# Altium footprint library transistor-fet.PCBLIB: 45 footprints (part 3 of 3)
Each footprint in its own frame and in the unit in brackets; x right, y up, seen from the top. Pads: shape width x height; smd on the part's side, far side on the other; paste and mask are expansions set on the pad; w line width, h text height; cw(c..) or ccw(c..) is an arc to the next point about the centre after c.
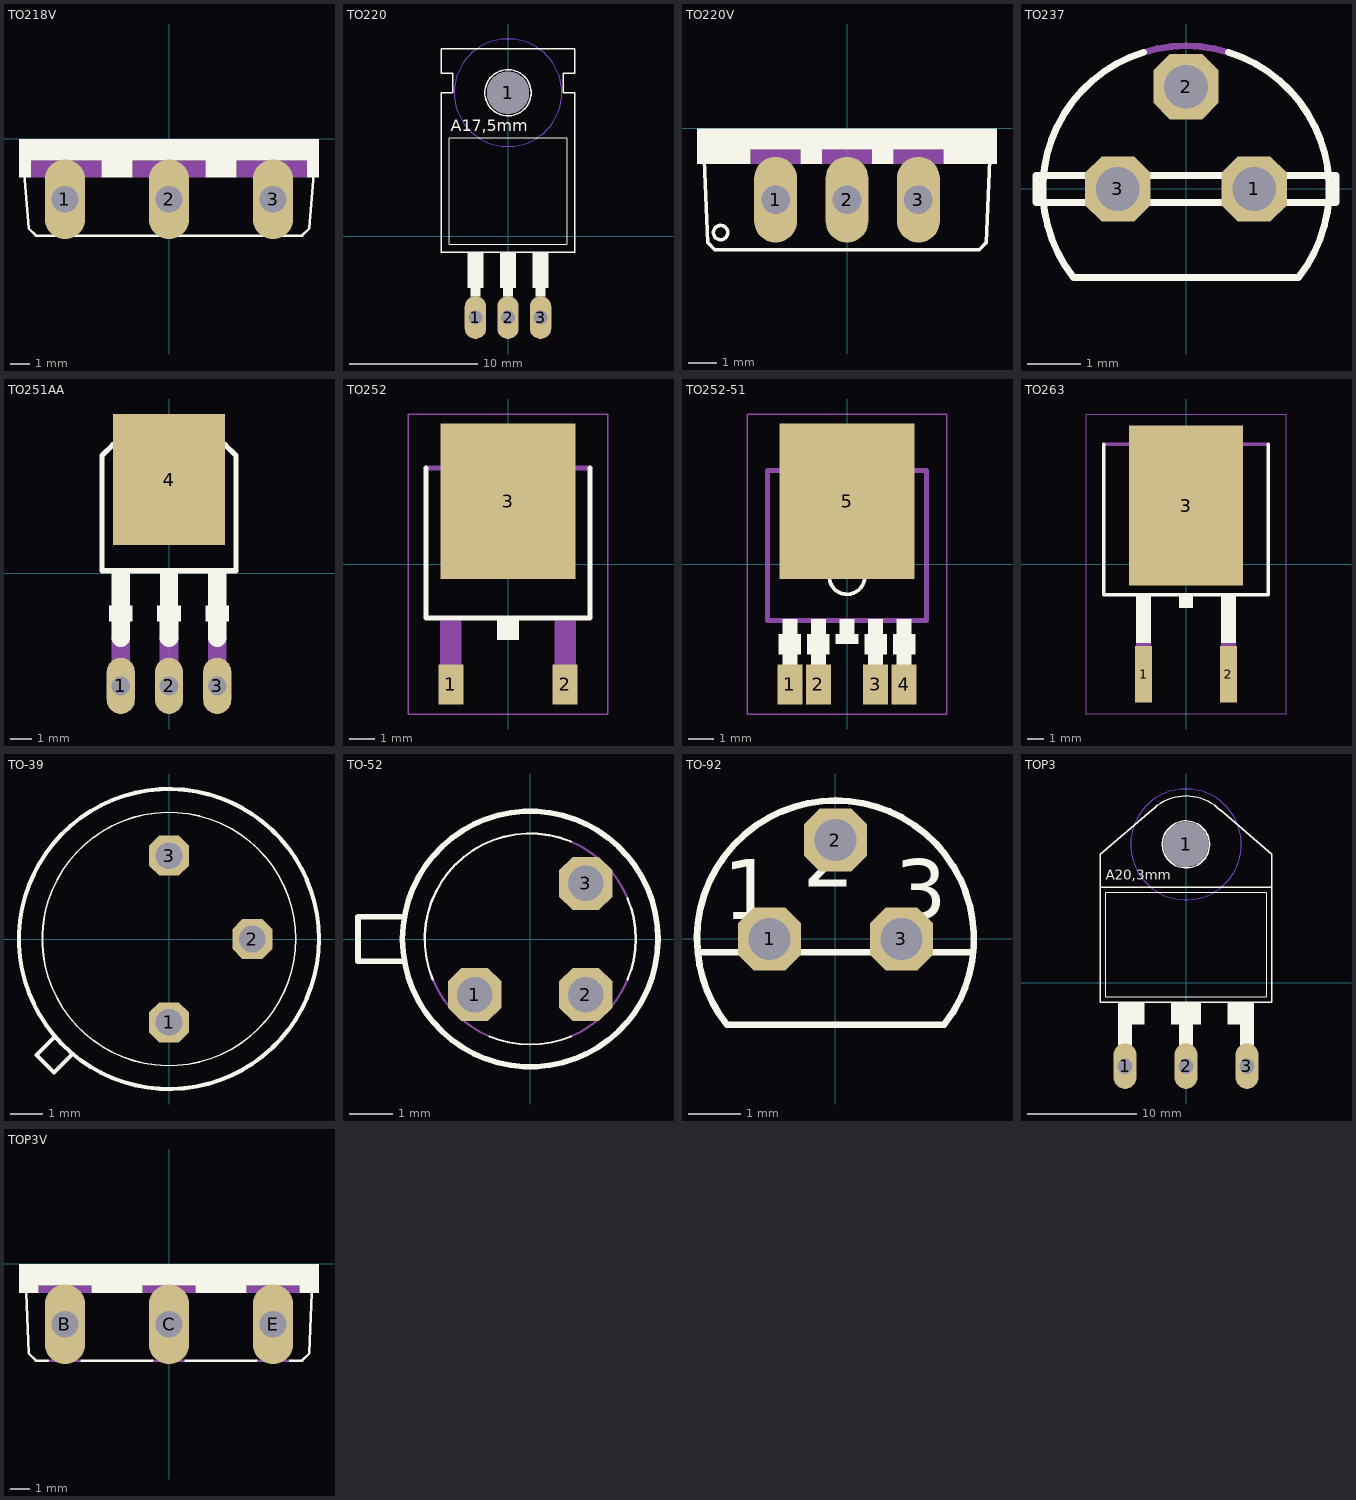
[diagram p2: the footprints below, top view; thin cyan lines are the x and y axes]

## TO218V [mil]
pads (3):
  oval 82.5x165 hole 55: 1(-215,-125) 2(0,-125) 3(215,-125)
Top Overlay:
  rectangle: -310,-45 310,0
  rectangle: -140,-80 -75,-45
  rectangle: 75,-80 140,-45
  rectangle: -310,-80 -285,-45
  rectangle: 285,-80 310,-45
  lines w5: -300,-60 -290,-185 -275,-200 275,-200 290,-185 300,-60
Mechanical 16:
  rectangle: 140,-80 285,-45
  rectangle: -285,-80 -140,-45
  rectangle: -75,-80 75,-45
  text "1" at -240,-175 h77.5
  text "2" at -25,-175 h77.5
  text "3" at 190,-175 h77.5

## TO220 [mil]
pads (4):
  oval 66x132 hole 44: 1(-100,-250) 2(0,-250) 3(100,-250)
  round 130 hole 130: 1(0,440)
Bottom Layer keep-out:
  circle w0: c0,440 r165
Top Overlay:
  circle w5: c0,440 r71
  rectangle: 85,-185 115,-160
  rectangle: -15,-185 15,-160
  rectangle: -115,-185 -85,-160
  rectangle: -125,-160 -75,-50
  rectangle: -25,-160 25,-50
  rectangle: 75,-160 125,-50
  lines w2: -180,-25 180,-25 180,300 -180,300 -180,-25
  lines w5: -205,-50 205,-50 205,440 170,440 170,500 205,500 205,575 -205,575 -205,500 -170,500 -170,440 -205,440 -205,-50
  text "A17,5mm" at -175,310 h60.45
Mechanical 16:
  rectangle: -115,-260 -85,-185
  rectangle: -15,-260 15,-185
  rectangle: 85,-260 115,-185
  text "1" at -125,0 h77.5
  text "2" at -25,0 h77.5
  text "3" at 75,0 h77.5
Via Holes:
  circle w0: c0,440 r165

## TO220V [mil]
pads (3):
  oval 60x120 hole 40: 1(-100,-100) 2(0,-100) 3(100,-100)
Top Overlay:
  circle w5: c-177,-146 r10
  rectangle: -210,-30 210,0
  rectangle: -210,-50 -135,-30
  rectangle: -65,-50 -35,-30
  rectangle: 35,-50 65,-30
  rectangle: 135,-50 210,-30
  lines w5: -200,-45 -195,-160 -185,-170 185,-170 195,-160 200,-45
Mechanical 16:
  rectangle: -135,-50 -65,-30
  rectangle: -35,-50 35,-30
  rectangle: 65,-50 135,-30
  text "1" at -125,-125 h77.5
  text "2" at -25,-125 h77.5
  text "3" at 75,-125 h77.5

## TO237 [mil]
pads (3):
  oct 48x48 hole 32: 1(50,0) 2(0,75) 3(-50,0)
Top Overlay:
  lines w5: -30.96,100.33 ccw(c0,0) -82.46,-65 82.46,-65 ccw(c0,0) 30.96,100.33 ; -110,-10 110,-10 110,10 -110,10 -110,-10
Mechanical 16:
  lines w5: -30.96,100.33 cw(c0,-0.02) 30.96,100.33
  text "2" at -20,20 h77.5
  text "3" at -85,20 h77.5
  text "1" at 50,20 h77.5

## TO251AA [mil]
pads (4):
  oval 52.5x105 hole 35: 1(-90,-210) 2(0,-210) 3(90,-210)
  rect 210x245 smd: 4(0,175)
Top Overlay:
  rectangle: -22,-90 22,-60
  rectangle: -17,-60 17,0
  rectangle: -112,-90 -68,-60
  rectangle: 68,-90 112,-60
  rectangle: -107,-60 -73,0
  rectangle: 73,-60 107,0
  lines w10: -100,240 100,240 ; -100,240 -105,240 -125,220 -125,5 125,5 125,220 105,240 100,240 ; -100,240 -100,270 -65,290 65,290 100,270 100,240
  lines w35: -90,-120 -90,-90 ; 0,-120 0,-90 ; 90,-120 90,-90
Mechanical 16:
  lines w35: -90,-210 -90,-120 ; 0,-210 0,-120 ; 90,-210 90,-120

## TO252 [mm]
pads (3):
  rect 1x1.6 smd: 1(-2.28,-4.8) 2(2.28,-4.8)
  rect 5.4x6.2 smd: 3(0,2.5)
Top Overlay:
  rectangle: -0.432,-3.023 0.432,-2.261
  lines w0.203: -3.277,3.835 -3.277,-2.159 3.277,-2.159 3.277,3.835
Mechanical 16:
  rectangle: -2.718,-5.156 -1.854,-2.261
  rectangle: 1.854,-5.156 2.718,-2.261
  region: 0,0 0.254,0 0.254,0.254 0,0.254
  lines w0.203: -3.277,3.835 3.277,3.835 ; -2.565,3.937 -2.565,4.648 -2.108,5.105 2.108,5.105 2.565,4.648 2.565,3.937 -2.565,3.937
Mechanical 27:
  lines w0.051: -3.973,-5.983 3.973,-5.983 3.973,5.983 -3.973,5.983 -3.973,-5.983

## TO252-51 [mm]
pads (5):
  rect 1x1.6 smd: 1(-2.28,-4.8) 2(-1.14,-4.8) 3(1.14,-4.8) 4(2.28,-4.8)
  rect 5.4x6.2 smd: 5(0,2.5)
Top Overlay:
  circle w0.152: c0,-0.5 r0.707
  rectangle: -0.3,-3.2 0.3,-2.2
  rectangle: -2.58,-5.05 -1.98,-2.2
  rectangle: -1.44,-5.05 -0.84,-2.2
  rectangle: 0.84,-5.05 1.44,-2.2
  rectangle: 1.98,-5.05 2.58,-2.2
  rectangle: -2.73,-3.6 -1.83,-2.8
  rectangle: -1.59,-3.6 -0.69,-2.8
  rectangle: 0.69,-3.6 1.59,-2.8
  rectangle: 1.83,-3.6 2.73,-2.8
  rectangle: -0.45,-3.2 0.45,-2.8
  region: 0,0 0.254,0 0.254,0.254 0,0.254
Mechanical 16:
  lines w0.203: -3.177,-2.26 -3.177,3.735 3.177,3.735 3.177,-2.259 -3.178,-2.259
Mechanical 27:
  lines w0.051: -3.973,-5.983 3.973,-5.983 3.973,5.983 -3.973,5.983 -3.973,-5.983

## TO263 [mm]
pads (3):
  rect 1x3.4 smd: 1(-2.54,-6.6) 2(2.54,-6.6)
  rect 6.8x9.6 smd: 3(0,3.5)
Top Overlay:
  rectangle: -0.432,-2.643 0.432,-1.881
  rectangle: -2.99,-4.74 -2.09,-1.94
  rectangle: 2.09,-4.74 2.99,-1.94
  lines w0.203: -4.917,7.165 -4.917,-1.839 4.917,-1.839 4.917,7.165
Mechanical 16:
  rectangle: -3,-7.5 -2.1,-4.7
  rectangle: 2.1,-7.5 3,-4.7
  region: 0,0 0.254,0 0.254,0.254 0,0.254
  lines w0.203: -4.917,7.165 4.917,7.165 ; -2.565,7.267 -2.565,7.678 -2.108,8.135 2.108,8.135 2.565,7.678 2.565,7.267 -2.565,7.267
Mechanical 27:
  lines w0.051: -5.973,-8.983 5.973,-8.983 5.973,8.983 -5.973,8.983 -5.973,-8.983

## TO-39 [mil]
pads (3):
  oct 48x48 hole 32: 1(0,-100) 2(100,0) 3(0,100)
Top Overlay:
  circle w5: c0,0 r180
  circle w2: c0,0 r152
  lines w5: -138,-118 -159,-139 -138,-160 -117,-139

## TO-52 [mil]
pads (3):
  oct 48x48 hole 32: 1(-50,-50) 2(50,-50) 3(50,50)
Top Overlay:
  circle w5: c0,0 r115
  lines w2: -87.68,-36.57 cw(c0,0) 36.57,87.68 ; -36.57,-87.68 ccw(c0,0) 36.57,-87.68 ; 87.68,-36.57 ccw(c0,0) 87.68,36.57
  lines w5: -113.25,-20 -155,-20 -155,20 -113.25,20
Mechanical 16:
  lines w2: -87.68,-36.57 ccw(c0,0) -36.57,-87.68 ; 36.57,-87.68 ccw(c0,0) 87.68,-36.57 ; 36.57,87.68 cw(c0,0) 87.68,36.57
  text "1" at -75,-50 h77.5
  text "2" at 25,-50 h77.5
  text "3" at 0,25 h77.5

## TO-92 [mil]
pads (3):
  oct 48x48 hole 32: 1(-50,0) 2(0,75) 3(50,0)
Top Overlay:
  lines w5: 104.52,-10 88.73,-10 11.27,-10 -11.27,-10 -88.73,-10 -104.52,-10 ; -104.52,-10 ccw(c0,0) -82.46,-65 82.46,-65 ccw(c0,0) 30.96,100.33 ccw(c0,-0.02) -30.96,100.33 ccw(c0,0) -104.52,-10
  text "2" at -25,25 h77.5
  text "1" at -85,0 h77.5
  text "3" at 45,0 h77.5

## TOP3 [mil]
pads (4):
  oval 82.5x165 hole 55: 1(-220,-300) 2(0,-300) 3(220,-300)
  round 162 hole 162: 1(0,500)
Bottom Layer keep-out:
  circle w0: c0,500 r200
Top Overlay:
  circle w5: c0,500 r85
  rectangle: -245,-150 -150,-70
  rectangle: -55,-150 55,-70
  rectangle: 150,-150 245,-70
  rectangle: -245,-225 -195,-150
  rectangle: -25,-225 25,-150
  rectangle: 195,-225 245,-150
  lines w2: -290,-50 290,-50 290,325 -290,325 -290,-50
  lines w5: -123.74,623.74 cw(c0.01,500) 0,675 cw(c-0.01,500) 123.74,623.74 ; -123,624 -310,465 -310,345 ; 123,625 310,465 310,345 ; -310,345 -310,-70 310,-70 310,345 ; -310,345 310,345
  text "A20,3mm" at -290,360 h60.45
Mechanical 16:
  rectangle: -245,-300 -195,-225
  rectangle: -25,-300 25,-225
  rectangle: 195,-300 245,-225
  text "1" at -225,-25 h77.5
  text "2" at -25,-25 h77.5
  text "3" at 175,-25 h77.5
Via Holes:
  circle w0: c0,500 r200

## TOP3V [mil]
pads (3):
  oval 82.5x165 hole 55: B(-215,-125) C(0,-125) E(215,-125)
Top Overlay:
  rectangle: -310,-45 310,0
  rectangle: -310,-60 -270,-45
  rectangle: -160,-60 -55,-45
  rectangle: 55,-60 160,-45
  rectangle: 270,-60 310,-45
  lines w5: -295,-60 -290,-185 -275,-200 -250,-200 ; -180,-200 -35,-200 ; 35,-200 180,-200 ; 250,-200 275,-200 290,-185 295,-60
Mechanical 16:
  rectangle: -270,-60 -160,-45
  rectangle: -55,-60 55,-45
  rectangle: 160,-60 270,-45
  lines w5: -250,-200 -180,-200 ; -35,-200 35,-200 ; 180,-200 250,-200
  text "B" at -240,-175 h77.5
  text "C" at -25,-175 h77.5
  text "E" at 190,-175 h77.5